# EAGLE library part LC4064ZE_XXTN100_S (library lattice_ispmach4000ze)
ispMACH 4064ZE TQFP100, Split Lattice Semiconductor Corporation - ispMACH 4000ZE Ultra Low Power, Low Cost CPLD Family Generated using Lattice BSDL models: http://www.latticesemi.com/dynamic/index.cfm?fuseaction=view_documents&document_type=36&sloc=01-01-02-01&source=sidebar
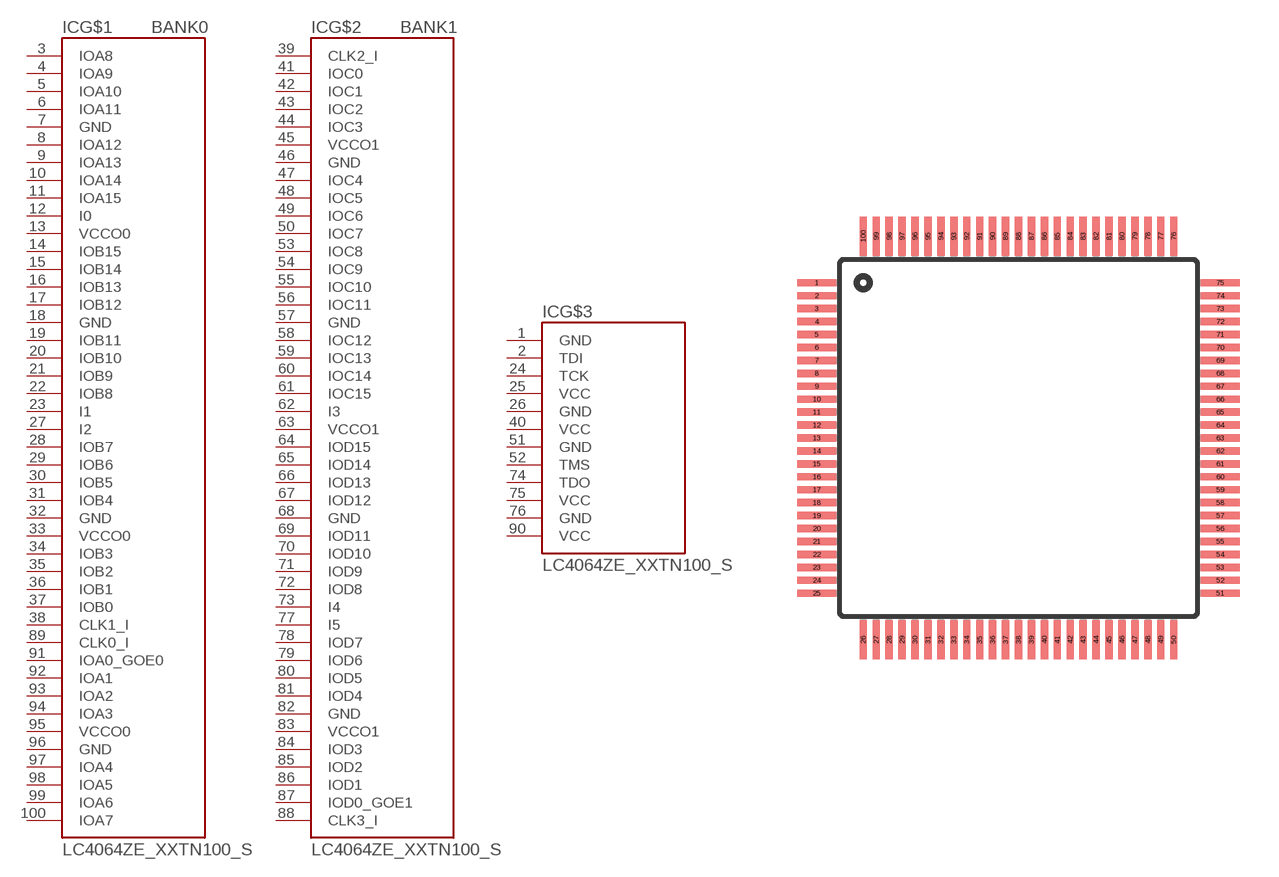
[diagram p19: symbol with the pads of TQFP100; footprint TQFP100]

Designator prefix IC; gates G$1=ISPMACH_LC4064ZE_TN100_PARTA G$2=ISPMACH_LC4064ZE_TN100_PARTB G$3=ISPMACH_LC4064ZE_TN100_PARTC

## LC4064ZE_XXTN100_S  [TQFP100]
1  G$3:GND  pwr
2  G$3:TDI  in
3  G$1:IOA8
4  G$1:IOA9
5  G$1:IOA10
6  G$1:IOA11
7  G$1:GND  pwr
8  G$1:IOA12
9  G$1:IOA13
10  G$1:IOA14
11  G$1:IOA15
12  G$1:I0  in
13  G$1:VCCO0  pwr
14  G$1:IOB15
15  G$1:IOB14
16  G$1:IOB13
17  G$1:IOB12
18  G$1:GND  pwr
19  G$1:IOB11
20  G$1:IOB10
21  G$1:IOB9
22  G$1:IOB8
23  G$1:I1  in
24  G$3:TCK  in
25  G$3:VCC  pwr
26  G$3:GND  pwr
27  G$1:I2  in
28  G$1:IOB7
29  G$1:IOB6
30  G$1:IOB5
31  G$1:IOB4
32  G$1:GND  pwr
33  G$1:VCCO0  pwr
34  G$1:IOB3
35  G$1:IOB2
36  G$1:IOB1
37  G$1:IOB0
38  G$1:CLK1_I  in
39  G$2:CLK2_I  in
40  G$3:VCC  pwr
41  G$2:IOC0
42  G$2:IOC1
43  G$2:IOC2
44  G$2:IOC3
45  G$2:VCCO1  pwr
46  G$2:GND  pwr
47  G$2:IOC4
48  G$2:IOC5
49  G$2:IOC6
50  G$2:IOC7
51  G$3:GND  pwr
52  G$3:TMS  in
53  G$2:IOC8
54  G$2:IOC9
55  G$2:IOC10
56  G$2:IOC11
57  G$2:GND  pwr
58  G$2:IOC12
59  G$2:IOC13
60  G$2:IOC14
61  G$2:IOC15
62  G$2:I3  in
63  G$2:VCCO1  pwr
64  G$2:IOD15
65  G$2:IOD14
66  G$2:IOD13
67  G$2:IOD12
68  G$2:GND  pwr
69  G$2:IOD11
70  G$2:IOD10
71  G$2:IOD9
72  G$2:IOD8
73  G$2:I4  in
74  G$3:TDO  out
75  G$3:VCC  pwr
76  G$3:GND  pwr
77  G$2:I5  in
78  G$2:IOD7
79  G$2:IOD6
80  G$2:IOD5
81  G$2:IOD4
82  G$2:GND  pwr
83  G$2:VCCO1  pwr
84  G$2:IOD3
85  G$2:IOD2
86  G$2:IOD1
87  G$2:IOD0_GOE1
88  G$2:CLK3_I  in
89  G$1:CLK0_I  in
90  G$3:VCC  pwr
91  G$1:IOA0_GOE0
92  G$1:IOA1
93  G$1:IOA2
94  G$1:IOA3
95  G$1:VCCO0  pwr
96  G$1:GND  pwr
97  G$1:IOA4
98  G$1:IOA5
99  G$1:IOA6
100  G$1:IOA7

## Footprint TQFP100 (pad centres in mm)
TQFP - 100 http://www.latticesemi.com/lit/docs/package/pkg.pdf
smd 1.5 x 0.285: 1 -7.8,6; 2 -7.8,5.5; 3 -7.8,5; 4 -7.8,4.5; 5 -7.8,4; 6 -7.8,3.5; 7 -7.8,3; 8 -7.8,2.5; 9 -7.8,2; 10 -7.8,1.5; 11 -7.8,1; 12 -7.8,0.5; 13 -7.8,0; 14 -7.8,-0.5; 15 -7.8,-1; 16 -7.8,-1.5; 17 -7.8,-2; 18 -7.8,-2.5; 19 -7.8,-3; 20 -7.8,-3.5; 21 -7.8,-4; 22 -7.8,-4.5; 23 -7.8,-5; 24 -7.8,-5.5; 25 -7.8,-6; 51 7.8,-6; 52 7.8,-5.5; 53 7.8,-5; 54 7.8,-4.5; 55 7.8,-4; 56 7.8,-3.5; 57 7.8,-3; 58 7.8,-2.5; 59 7.8,-2; 60 7.8,-1.5; 61 7.8,-1; 62 7.8,-0.5; 63 7.8,0; 64 7.8,0.5; 65 7.8,1; 66 7.8,1.5; 67 7.8,2; 68 7.8,2.5; 69 7.8,3; 70 7.8,3.5; 71 7.8,4; 72 7.8,4.5; 73 7.8,5; 74 7.8,5.5; 75 7.8,6
smd 0.285 x 1.5: 26 -6,-7.8; 27 -5.5,-7.8; 28 -5,-7.8; 29 -4.5,-7.8; 30 -4,-7.8; 31 -3.5,-7.8; 32 -3,-7.8; 33 -2.5,-7.8; 34 -2,-7.8; 35 -1.5,-7.8; 36 -1,-7.8; 37 -0.5,-7.8; 38 0,-7.8; 39 0.5,-7.8; 40 1,-7.8; 41 1.5,-7.8; 42 2,-7.8; 43 2.5,-7.8; 44 3,-7.8; 45 3.5,-7.8; 46 4,-7.8; 47 4.5,-7.8; 48 5,-7.8; 49 5.5,-7.8; 50 6,-7.8; 76 6,7.8; 77 5.5,7.8; 78 5,7.8; 79 4.5,7.8; 80 4,7.8; 81 3.5,7.8; 82 3,7.8; 83 2.5,7.8; 84 2,7.8; 85 1.5,7.8; 86 1,7.8; 87 0.5,7.8; 88 0,7.8; 89 -0.5,7.8; 90 -1,7.8; 91 -1.5,7.8; 92 -2,7.8; 93 -2.5,7.8; 94 -3,7.8; 95 -3.5,7.8; 96 -4,7.8; 97 -4.5,7.8; 98 -5,7.8; 99 -5.5,7.8; 100 -6,7.8